# Altium schematic symbol library ADA4841_2.Schlib: 1 symbol
Pins are listed as number, name and electrical type; pins without a type are passive.

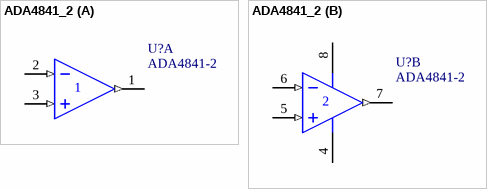
[diagram p0: symbol ADA4841_2]

## ADA4841_2
designator U?, comment ADA4841-2
Dual Rail-to-Rail I/O Operational Amplifier
part A pins: 1 OUT (out), 2 IN- (in), 3 IN+ (in)
part B pins: 4 V- (power), 5 IN+ (in), 6 IN- (in), 7 OUT (out), 8 V+ (power)